# Altium footprint library moya.PcbLib: 46 footprints (part 2 of 3)
Each footprint in its own frame and in the unit in brackets; x right, y up, seen from the top. Pads: shape width x height; smd on the part's side, far side on the other; paste and mask are expansions set on the pad; w line width, h text height; cw(c..) or ccw(c..) is an arc to the next point about the centre after c.
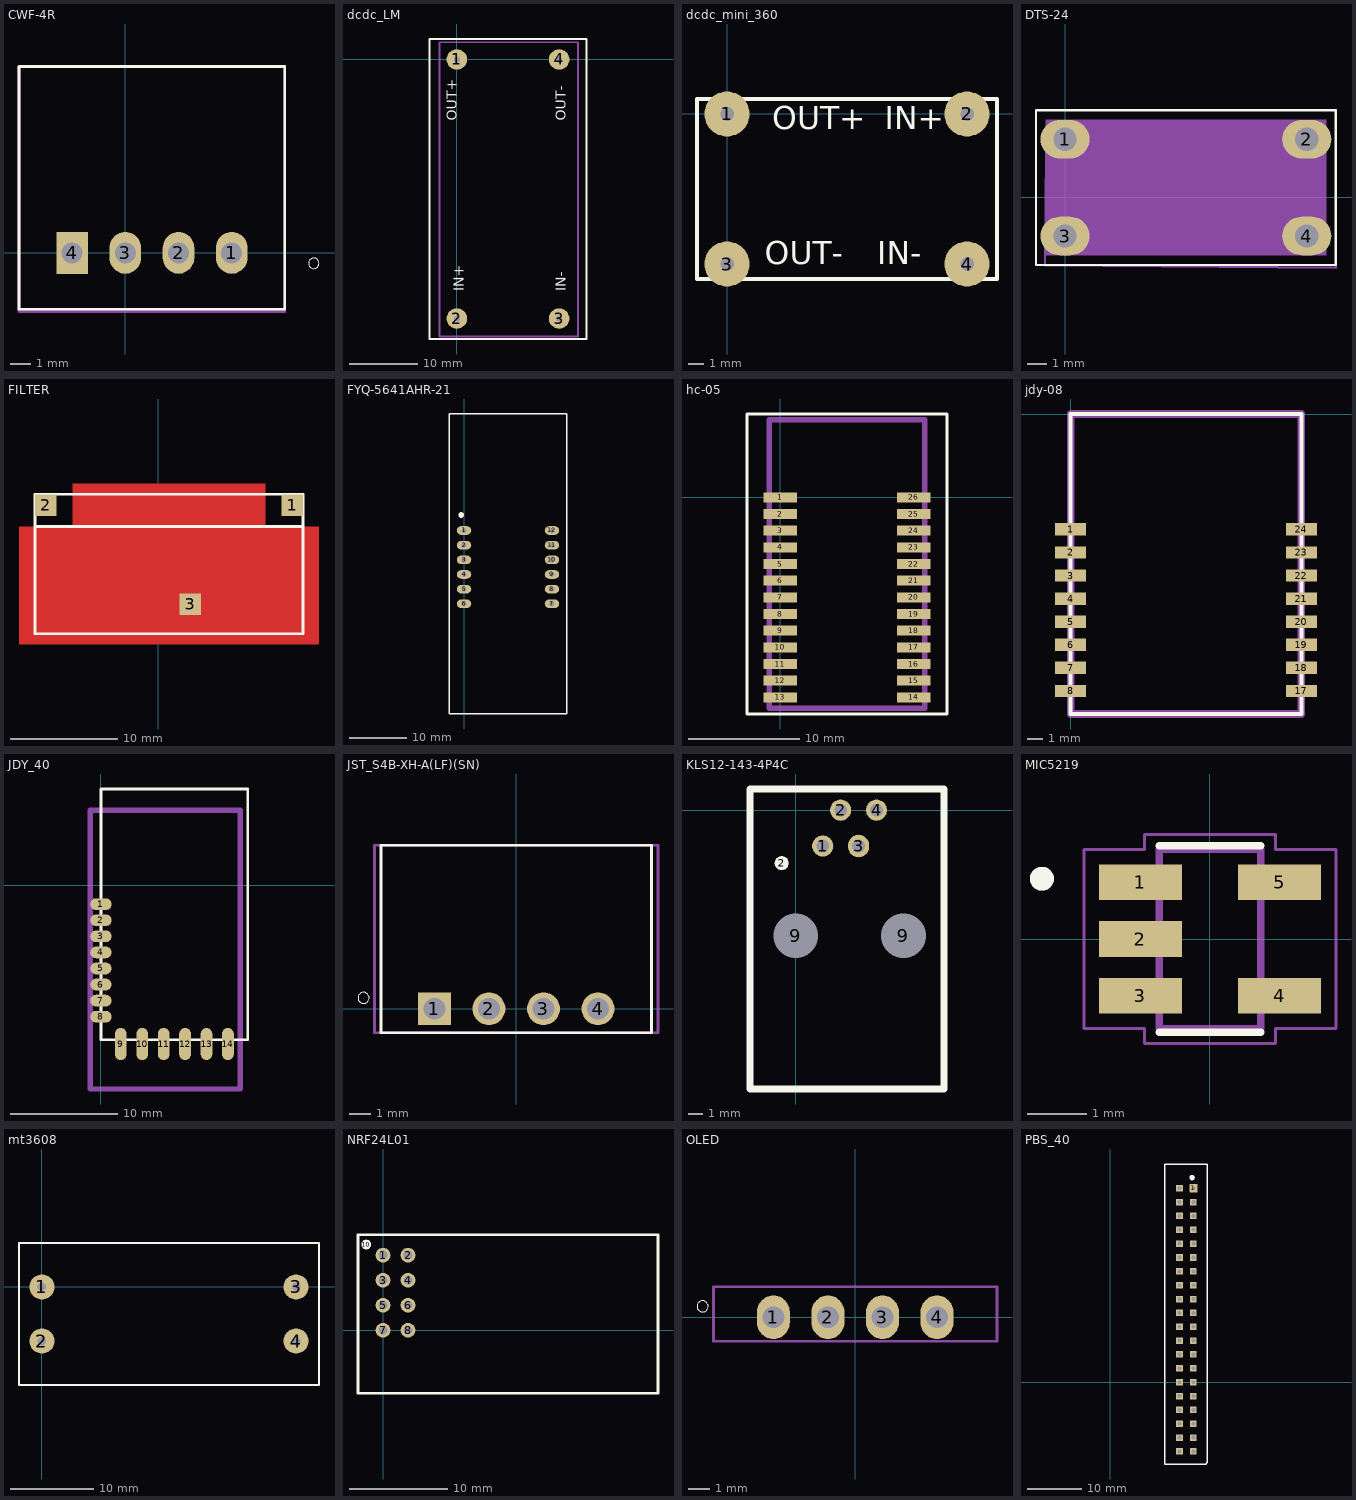
[diagram p1: the footprints below, top view; thin cyan lines are the x and y axes]

## CWF-4R [mm]
pads (4):
  oval 1.508x2 hole 1: 1(5.08,0) 2(2.54,0) 3(0,0)
  rect 1.508x2 hole 1: 4(-2.54,0)
Top Overlay:
  circle w0: c9,-0.5 r0.25
  lines w0.127: -5.08,-2.7 7.62,-2.7 7.62,8.9 -5.08,8.9 -5.08,-2.7
Mechanical 16:
  lines w0.127: -5.08,-2.8 7.62,-2.8 7.62,8.9 -5.08,8.9 -5.08,-2.8
3D body "User Library-DS1069-4 MR TypeA.STEP": height 5.85, standoff -3.3, extent -5,-2.25 7.4,9.25

## dcdc_LM [mm]
pads (4):
  round 3 hole 0.9 unplated paste+0: 1(0,0) 2(0,-38) 3(15,-38) 4(15,0)
Top Overlay:
  lines w0.254: -4,-41 -4,3 19,3 19,-41 -4,-41
  text "OUT+" at 0,-9 h1.52
  text "OUT-" at 16,-9 h1.52
  text "IN-" at 16,-34 h1.52
  text "IN+" at 1,-34 h1.52
Mechanical 1:
  lines w0.254: -2.54,-40.64 17.78,-40.64 17.78,2.54 -2.54,2.54 -2.54,-40.64
3D body: height 14, standoff 0, extent -2.539,-40.639 17.779,2.539

## dcdc_mini_360 [mm]
pads (4):
  round 3 hole 0.9 unplated paste+0: 1(0,0) 2(16,0) 3(0,-10) 4(16,-10)
Top Overlay:
  lines w0.254: -2,-11 18,-11 18,1 -2,1 -2,-11
  text "IN+" at 10.5,-1 h1.52
  text "IN-" at 10,-10 h1.52
  text "OUT-" at 2.5,-10 h1.52
  text "OUT+" at 3,-1 h1.52
3D body: height 5, standoff 0, extent -2,-11 17.779,1

## DTS-24 [mm]
pads (4):
  oval 2.54x2 hole 1.2: 1(0,3) 2(12.5,3) 3(0,-2) 4(12.5,-2)
Top Overlay:
  lines w0.127: -1.5,-3.5 -1.5,4.5 2.404,4.5 14,4.5 14,-3.5 -1.5,-3.5
Mechanical 4:
  lines w0.127: -0.983,2.461 -1.035,-3.51 14.009,-3.64 14.009,3.294
Mechanical 16:
  region: -1,4 13.5,4 13.5,-3 -1,-3
3D body "User Library-DTS24.STEP": height 11.31, standoff -3.96, extent -1.205,-6.151 13.4,6.849

## FILTER [mm]
height 0.8
pads (3):
  rect 2x2 smd: 1(12.5,24.5) 2(-10.5,24.5) 3(3,15.25)
Top Layer:
  rectangle: 7.5,11.5 15,22.5
  rectangle: -8,11.5 10,26.5
  rectangle: -13,11.5 -5.5,22.5
  lines w0.254: 3,15.25 4,14 3.5,14.5
Top Overlay:
  lines w0.254: -11.5,12.5 -11.5,25.5 13.5,25.5 13.5,12.5 ; -11.5,12.5 13.5,12.5 ; -11.5,12.5 13.5,12.5 ; -11.5,12.5 -11.5,22.5 13.5,22.5 13.5,12.5
3D body: height 8.8, standoff 0, extent -11.5,12.5 13.5,25.5

## FYQ-5641AHR-21 [mm]
pads (13):
  oval 2.5x1.5 hole 0.9 paste+0: 1(0,35.56) 2(0,33.02) 3(0,30.48) 4(0,27.94) 5(0,25.4) 6(0,22.86) 7(15.24,22.86) 8(15.24,25.4) 9(15.24,27.94) 10(15.24,30.48) 11(15.24,33.02) 12(15.24,35.56)
  round 1 on Top Overlay paste+0: 10(-0.5,38.25)
Top Overlay:
  lines w0.254: -2.54,3.75 17.78,3.75 17.78,55.75 -2.54,55.75 -2.54,3.75
3D body "User Library-5641_Red_jam.STEP": height 8.1, standoff -5.5, extent -1.75,4.05 17.25,54.45

## hc-05 [mm]
pads (26):
  rect 3x0.9 smd paste+0: 1(0,0) 2(0,-1.5) 3(0,-3) 4(0,-4.5) 5(0,-6) 6(0,-7.5) 7(0,-9) 8(0,-10.5) 9(0,-12) 10(0,-13.5) 11(0,-15) 12(0,-16.5) 13(0,-18) 14(12,-18) 15(12,-16.5) 16(12,-15) 17(12,-13.5) 18(12,-12) 19(12,-10.5) 20(12,-9) 21(12,-7.5) 22(12,-6) 23(12,-4.5) 24(12,-3) 25(12,-1.5) 26(12,0)
Top Overlay:
  lines w0.254: -3,-19.5 15,-19.5 15,7.5 -3,7.5 -3,-19.5
Mechanical 13:
  lines w0.5: 11,7 13,7 ; 13,7 13,6 13,-19 -1,-19 -1,7 13,7
3D body: height 3, standoff 0, extent -1.25,-19.25 13.25,7.25

## jdy-08 [mm]
pads (16):
  rect 2x0.8 smd: 1(0,-7.5) 2(0,-9) 3(0,-10.5) 4(0,-12) 5(0,-13.5) 6(0,-15) 7(0,-16.5) 8(0,-18) 17(15,-18) 18(15,-16.5) 19(15,-15) 20(15,-13.5) 21(15,-12) 22(15,-10.5) 23(15,-9) 24(15,-7.5)
Top Layer:
  text "1" at -1.2,-6.125 h1
Top Overlay:
  lines w0.254: 0,-19.5 0,0 15,0 15,-19.5 0,-19.5
Mechanical 13:
  lines w0.5: 14,0 15,0 ; 15,0 0,0 0,-19.5 15,-19.5 15,-2.5 15,-2.5 15,0
3D body: height 3, standoff 0, extent 0.25,-19 14.75,1

## JDY_40 [mm]
pads (14):
  oval 2x1.1 smd: 1(0,-1.75) 2(0,-3.25) 3(0,-4.75) 4(0,-6.25) 5(0,-7.75) 6(0,-9.25) 7(0,-10.75) 8(0,-12.25)
  oval 1.1x3 smd: 9(1.85,-14.8) 10(3.85,-14.8) 11(5.85,-14.8) 12(7.85,-14.8) 13(9.85,-14.8) 14(11.85,-14.8)
Top Overlay:
  lines w0.254: 0,-14.4 13.7,-14.4 13.7,9 0,9 0,-14.4
Mechanical 13:
  lines w0.5: 11,7 13,7 ; 13,7 13,6 13,-19 -1,-19 -1,7 13,7
3D body "Сборка1.STEP": height 2.83, standoff 0, extent -0.075,-14.075 13.625,8.925

## JST_S4B-XH-A(LF)(SN) [mm]
pads (4):
  rect 1.508x1.508 hole 1: 1(-3.75,0)
  round 1.508 hole 1: 2(-1.25,0) 3(1.25,0) 4(3.75,0)
Top Overlay:
  circle w0: c-7,0.5 r0.254
  lines w0.127: -6.2,-1.1 -6.2,7.5 6.2,7.5 6.2,-1.1 -6.2,-1.1
Mechanical 16:
  lines w0.127: -6.5,-1.1 -6.5,7.5 6.5,7.5 6.5,-1.1 -6.5,-1.1
3D body "User Library-DS1069-4 MR TypeB.STEP": height 5.75, standoff -3.4, extent -6.2,-0.3 6.2,7.34

## KLS12-143-4P4C [mm]
pads (7):
  round 1.5 hole 0.9 paste+0: 1(1.905,-2.54) 2(3.175,0) 4(5.715,0)
  round 1 on Top Overlay: 2(-1,-3.75)
  oval 1.5x1.6 hole 0.9 paste+0: 3(4.445,-2.54)
  round 3 hole 3.17 unplated paste+0: 9(0,-8.89) 9(7.62,-8.89)
Top Overlay:
  lines w0.5: -3.25,-19.75 10.5,-19.75 10.5,1.5 -3.25,1.5 -3.25,-19.75
3D body: height 16, standoff 0, extent -3.25,-19.75 10.5,1.5

## MIC5219 [mm]
pads (5):
  rect 1.39x0.6 smd: 1(-1.165,0.95) 2(-1.165,0) 3(-1.165,-0.95) 4(1.165,-0.95) 5(1.165,0.95)
Top Overlay:
  circle w0.2: c-2.813,1.009 r0.1
  lines w0.127: -0.85,-1.564 0.85,-1.564 ; -0.85,1.564 0.85,1.564
Mechanical 4:
  circle w0.2: c-2.813,1.009 r0.1
  circle w0.2: c-2.813,1.009 r0.1
  lines w0.127: -0.85,-1.5 -0.85,1.5 ; -0.85,-1.5 0.85,-1.5 ; -0.85,-1.5 -0.85,1.5 ; -0.85,-1.5 0.85,-1.5 ; -0.85,1.5 0.85,1.5 ; -0.85,1.5 0.85,1.5 ; 0.85,-1.5 0.85,1.5 ; 0.85,-1.5 0.85,1.5
Mechanical 16:
  lines w0.05: -2.11,-1.5 -2.11,1.5 -1.1,1.5 -1.1,1.75 1.1,1.75 1.1,1.5 2.11,1.5 2.11,-1.5 1.1,-1.5 1.1,-1.75 -1.1,-1.75 -1.1,-1.5 -2.11,-1.5
3D body "ALSRobot-SOT23-5R.STEP": height 1.3, standoff 0, extent -1.5,-1.5 1.5,1.5

## mt3608 [mm]
pads (4):
  round 3 hole 1 unplated: 1(0,0) 2(0,-6.5) 3(30.5,0) 4(30.5,-6.5)
Top Layer:
  text "OUT +" at -1.25,2.5 h1.52
Top Overlay:
  lines w0.254: -2.75,-11.75 33.25,-11.75 33.25,5.25 -2.75,5.25 -2.75,-11.75

## NRF24L01 [mm]
pads (9):
  round 1.5 hole 0.9: 1(0,7.62) 2(2.54,7.62) 3(0,5.08) 4(2.54,5.08) 5(0,2.54) 6(2.54,2.54) 7(0,0) 8(2.54,0)
  round 1 on Top Overlay: 10(-1.7,8.7)
Top Overlay:
  lines w0.254: -2.54,-6.4 -2.54,9.7 27.9,9.7 27.9,-6.4 -2.54,-6.4
3D body "User Library-NRF24L01.STEP": height 6.4, standoff -6.05, extent -1.6,-5.9 27.4,9.1

## OLED [mm]
pads (4):
  oval 1.508x2 hole 1: 1(-3.75,0) 2(-1.25,0) 3(1.25,0) 4(3.75,0)
Top Overlay:
  circle w0: c-7,0.5 r0.254
Bottom Overlay:
  lines w0.127: -6.2,-1.1 6.2,-1.1 6.2,1.4 -6.2,1.4 -6.2,-1.1
Mechanical 16:
  lines w0.127: -6.5,-1.1 6.5,-1.1 6.5,1.4 -6.5,1.4 -6.5,-1.1
3D body "User Library-128x64I2COLEDDisplayAdafruit.STEP": height -0.63, standoff -11.47, extent -13.325,-25.51 13.375,2.35

## PBS_40 [mm]
pads (41):
  rect 1.5x1.524 hole 0.7: 1(15.24,35.56)
  rect 1.2x1.2 hole 0.7: 2(12.7,35.56) 3(15.24,33.02) 4(12.7,33.02) 5(15.24,30.48) 6(12.7,30.48) 7(15.24,27.94) 8(12.7,27.94) 9(15.24,25.4) 10(12.7,25.4) 11(15.24,22.86) 12(12.7,22.86) 13(15.24,20.32) 14(12.7,20.32) 15(15.24,17.78) 16(12.7,17.78) 17(15.24,15.24) 18(12.7,15.24) 19(15.24,12.7) 20(12.7,12.7) 21(15.24,10.16) 22(12.7,10.16) 23(15.24,7.62) 24(12.7,7.62) 25(15.24,5.08) 26(12.7,5.08) 27(15.24,2.54) 28(12.7,2.54) 29(15.24,0) 30(12.7,0) 31(15.24,-2.54) 32(12.7,-2.54) 33(15.24,-5.08) 34(12.7,-5.08) 35(15.24,-7.62) 36(12.7,-7.62) 37(15.24,-10.16) 38(12.7,-10.16) 39(15.24,-12.7) 40(12.7,-12.7)
  round 1 on Top Overlay paste+0: 10(15,37.5)
Top Overlay:
  lines w0.254: 10,-15 10,10 10,40 17.78,40 17.78,-2.54 17.78,-14.72 17.5,-15 15,-15 10,-15